# Altium footprint library PCB_Master.PcbLib: 31 footprints (part 1 of 2)
Each footprint in its own frame and in the unit in brackets; x right, y up, seen from the top. Pads: shape width x height; smd on the part's side, far side on the other; paste and mask are expansions set on the pad; w line width, h text height; cw(c..) or ccw(c..) is an arc to the next point about the centre after c.
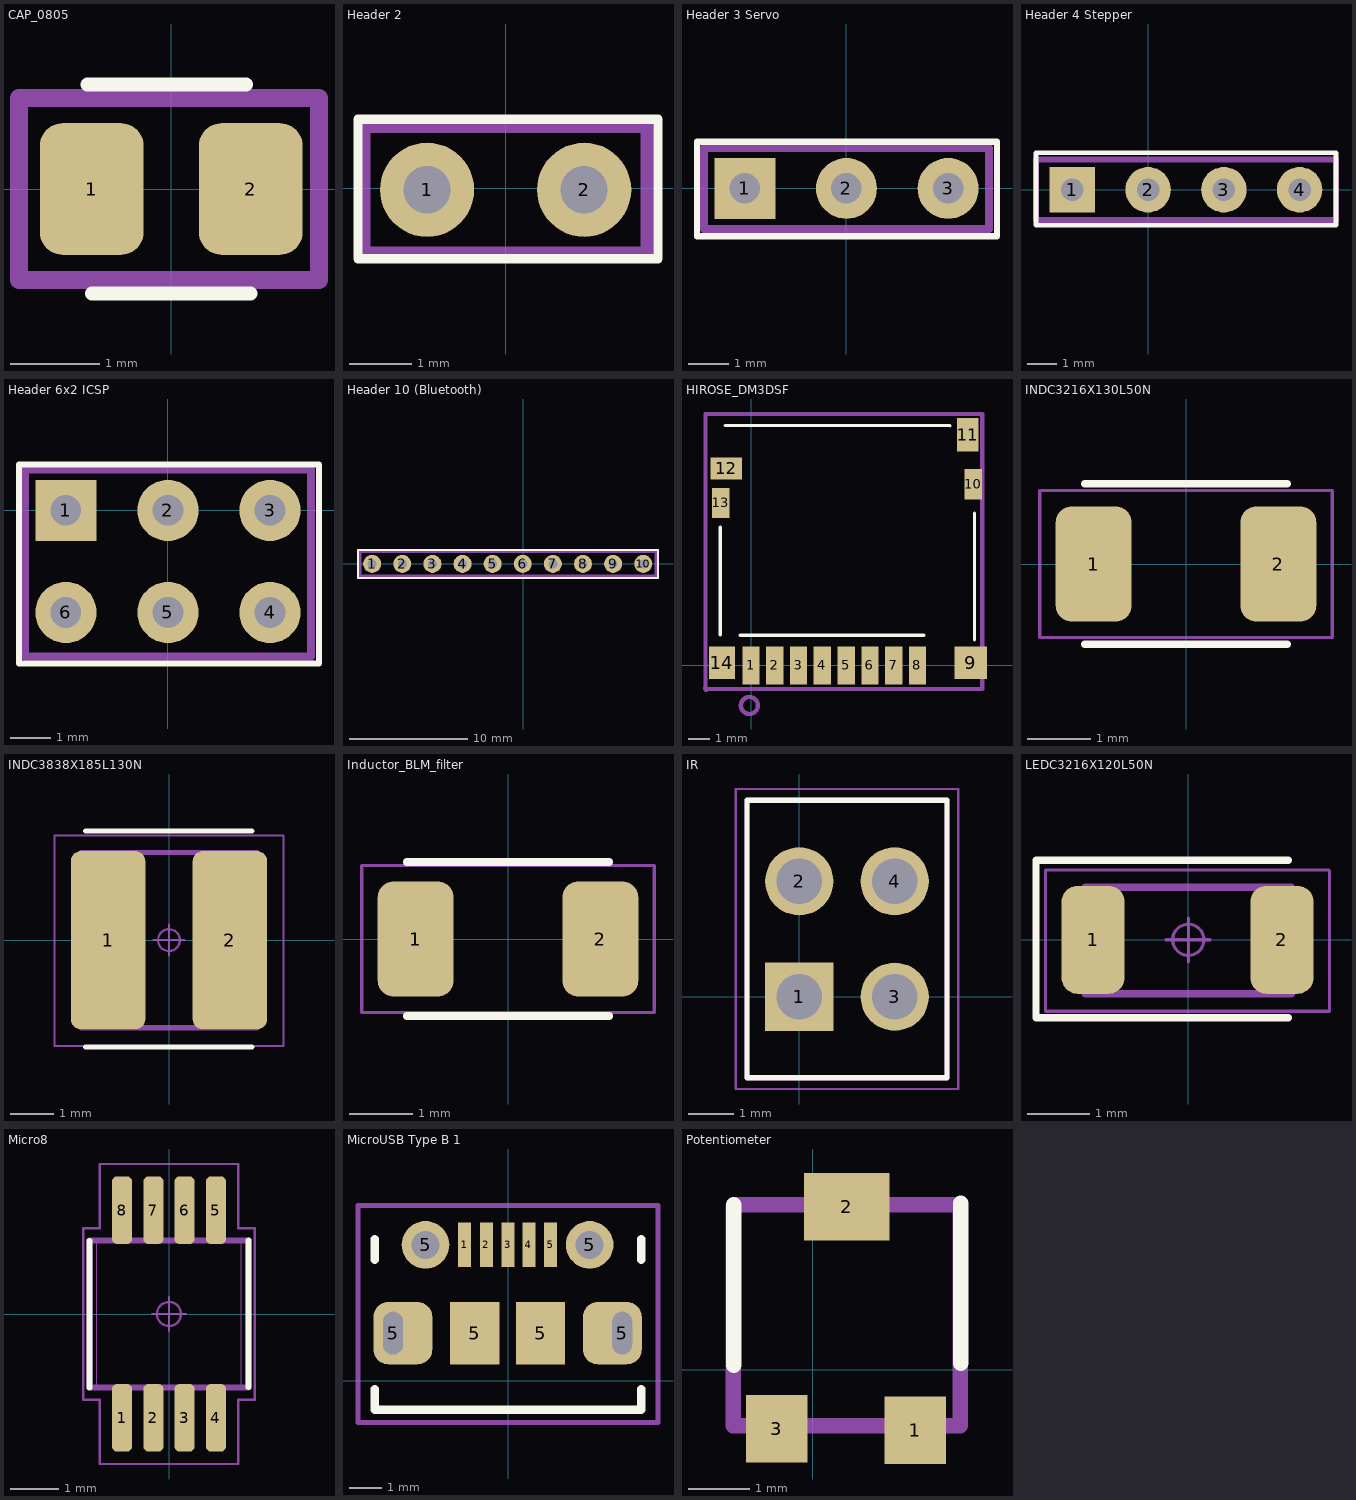
[diagram p0: the footprints below, top view; thin cyan lines are the x and y axes]

## CAP_0805 [mm] "Capacitor, Chip; 2.00 mm L X 1.25 mm W X 1.45 mm H body"
height 1.45
pads (2):
  rrect43% 1.16x1.47 smd: 1(-0.889,0) 2(0.889,0)
Top Overlay:
  lines w0.152: -0.94,1.168 0.838,1.168 ; -0.889,-1.168 0.889,-1.168
Mechanical 15:
  lines w0.203: -1.702,-1.016 1.651,-1.016 1.651,1.016 -1.702,1.016 -1.702,-1.016
3D body "SW3DPS-CAPACITOR 0805-DEFAULT.STEP": height 0.73, standoff -0.03, extent -1,-0.655 1,0.655

## Header 2 [mil]
pads (2):
  round 60 hole 30: 1(-50,-1) 2(50,-1)
Top Overlay:
  lines w6: -94,-45 97,-45 97,44 -94,44 -94,-45
Mechanical 15:
  lines w8: -90,-41 90,-41 90,39 -90,39 -90,-41
3D body "User Library-1x2 TH Pitch 2_54mm.step": height 373.85, standoff -125.98, extent -100,-51 100,49

## Header 3 Servo [mil]
pads (3):
  rect 60x60 hole 30: 1(-100,0)
  round 60 hole 30: 2(0,0) 3(100,0)
Top Overlay:
  lines w6: -147,-47 -147,46 148,46 148,-47 -147,-47
Mechanical 15:
  lines w8: -140,-40 140,-40 140,40 -140,40 -140,-40
3D body "User Library-1x3 TH Pitch 2_54mm.STEP": height 377.78, standoff -122.05, extent -150,-50 150,50

## Header 4 Stepper [mil]
pads (4):
  rect 60x60 hole 30: 1(-100,0)
  round 60 hole 30: 2(0,0) 3(100,0) 4(200,0)
Top Overlay:
  lines w6: -148,-47 -148,49 248,49 248,-47 -148,-47
Mechanical 15:
  lines w8: -148,-40 248,-40 248,40 -148,40 -148,-40
3D body "User Library-header90-4.STEP": height 119.65, standoff -98.46, extent -147,-394.88 253,13

## Header 6x2 ICSP [mil]
pads (6):
  rect 60x60 hole 30: 1(-100,0)
  round 60 hole 30: 2(0,0) 3(100,0) 4(100,-100) 5(0,-100) 6(-100,-100)
Top Overlay:
  lines w6: -146,-150 148,-150 148,45 -146,45 -146,-150
Mechanical 15:
  lines w8: -140,-143 -140,40 140,40 140,-143 -140,-143
3D body "User Library-2x3 Header.step": height 334.65, standoff -118.11, extent -151,-149 149,49.43

## Header 10 (Bluetooth) [mil]
pads (10):
  round 60 hole 30: 1(-502,0) 2(-402,0) 3(-302,0) 4(-202,0) 5(-102,0) 6(-2,0) 7(98,0) 8(198,0) 9(298,0) 10(398,0)
Top Overlay:
  lines w6: -549,-47 447,-47 447,46 -549,46 -549,-47
Mechanical 15:
  lines w8: -542,-40 -542,40 439,40 439,-40 -542,-40
3D body "User Library-Header Female 1x10.step": height 365.65, standoff -101.87, extent -578.8,-49.72 444.82,47.72

## HIROSE_DM3DSF [mm]
pads (14):
  rect 0.8x1.75 smd mask+0.089: 1(0,0) 2(1.1,0) 3(2.2,0) 4(3.3,0) 5(4.4,0) 6(5.5,0) 7(6.6,0) 8(7.7,0)
  rect 1.5x1.5 smd: 9(10.16,0.127)
  rect 0.8x1.4 smd: 10(10.287,8.382) 13(-1.397,7.518)
  rect 1x1.55 smd paste-25.4 mask-25.4: 11(10.033,10.668)
  rect 1.45x1 smd paste-25.4 mask-25.4: 12(-1.15,9.112)
  rect 1.2x1.5 smd mask+0.089: 14(-1.346,0.127)
Top Overlay:
  lines w0.152: -1.422,1.422 -1.422,6.401 ; -1.194,11.1 9.206,11.089 ; -0.508,1.397 8.001,1.397 ; 10.338,1.194 10.338,7.036
Top Paste:
  region: -0.425,8.612 -0.425,9.612 -1.875,9.612 -1.875,8.612
  region: 9.533,9.893 10.533,9.893 10.533,11.443 9.533,11.443
Top Solder:
  region: -0.325,8.512 -0.325,9.712 -1.975,9.712 -1.975,8.512
  region: 9.433,9.793 10.633,9.793 10.633,11.543 9.433,11.543
Mechanical 15:
  circle w0.203: c-0.076,-1.854 r0.394
  lines w0.203: -2.108,-1.067 -2.108,11.633 10.693,11.633 10.693,-0.991 ; -2.083,-1.092 10.693,-1.092
  lines w0.254: -2.108,-1.067 -2.083,-1.092
3D body "DM3D-SF.stp": height 1.55, standoff 0, extent -1.403,-0.381 10.547,11.069

## INDC3216X130L50N [mm] "Inductor, Chip; 3.20 mm L X 1.60 mm W X 1.30 mm H body"
height 1.3
pads (2):
  rrect42% 1.2x1.82 smd: 1(-1.46,0) 2(1.46,0)
Top Overlay:
  lines w0.12: -1.6,-1.27 1.6,-1.27 ; -1.6,1.27 1.6,1.27
Mechanical 15:
  lines w0.05: -2.31,-1.16 2.31,-1.16 2.31,1.16 -2.31,1.16 -2.31,-1.16
3D body "WE-CBF_1206_CBF.stp": height 1.05, standoff -0.05, extent -1.6,-0.8 1.6,0.8

## INDC3838X185L130N [mm] "Inductor, Chip; 3.80 mm L X 3.80 mm W X 1.85 mm H body"
height 1.85
pads (2):
  rrect26% 1.7x4.064 smd: 1(-1.39,0) 2(1.39,0)
Top Overlay:
  lines w0.12: -1.905,-2.438 1.895,-2.438 ; -1.905,2.489 1.895,2.489
Mechanical 11:
  lines w0.12: -2,-2 2,-2 2,2 -2,2 -2,-2
Mechanical 15:
  circle w0.05: c0,0 r0.25
  lines w0.05: -0.35,0 0.35,0 ; 0,-0.35 0,0.35 ; -2.61,-2.413 2.61,-2.413 2.61,2.388 -2.61,2.388 -2.61,-2.413
3D body "Download_STP_WE-TPC-3816.stp": height 1.7, standoff 0.05, extent -1.874,-1.925 1.926,1.875

## Inductor_BLM_filter [mm] "Inductor, Chip; 3.20 mm L X 1.60 mm W X 1.30 mm H body"
height 1.3
pads (2):
  rrect42% 1.2x1.82 smd: 1(-1.46,0) 2(1.46,0)
Top Overlay:
  lines w0.12: -1.6,-1.217 1.6,-1.217 ; -1.6,1.217 1.6,1.217
Mechanical 15:
  lines w0.05: -2.31,-1.16 -2.31,1.16 2.31,1.16 2.31,-1.16 -2.31,-1.16
3D body "User Library-BLM31PG330SN1.step": height 1.11, standoff -0.01, extent -1.575,-0.813 1.625,0.807

## IR [mm] "Header, Vertical Shrouded, 2.10 mm row X 2.54 mm column pitch; 0.76 mm lead width, 4 pins, 2 rows, 2 pins per row, 4.39 mm L X 6.10 mm W X 17.00 mm H body"
height 17
pads (4):
  rect 1.5x1.5 hole 1 paste-1.91: 1(0,0)
  round 1.5 hole 1 paste-1.91: 2(0,2.54) 3(2.1,0) 4(2.1,2.54)
Top Overlay:
  lines w0.12: -1.15,-1.78 -1.15,4.32 3.25,4.32 3.25,-1.78 -1.15,-1.78
Mechanical 11:
  lines w0.12: -1.15,-1.78 -1.15,4.32 3.25,4.32 3.25,-1.78 -1.15,-1.78
Mechanical 12:
  lines w0.01: -1.145,-1.78 -1.145,4.32 3.245,4.32 3.245,-1.78 -1.145,-1.78
Mechanical 15:
  circle w0.05: c0,0 r0.25
  lines w0.05: -0.35,0 0.35,0 ; 0,-0.35 0,0.35 ; -1.4,-2.03 -1.4,4.57 3.5,4.57 3.5,-2.03 -1.4,-2.03
3D body "QRD1114.STEP": height 4.65, standoff -2, extent -1.022,-1.778 3.378,4.322

## LEDC3216X120L50N [mm] "LED, Chip; 3.20 mm L X 1.60 mm W X 1.20 mm H body"
height 1.2
pads (2):
  rrect50% 1.01x1.73 smd: 1(-1.524,0) 2(1.499,0)
Top Overlay:
  lines w0.12: 1.6,-1.245 -2.438,-1.245 -2.438,1.27 1.6,1.27
Mechanical 11:
  lines w0.12: -1.651,0.836 -1.651,-0.864 1.649,-0.864 ; -1.651,0.838 1.649,0.838 ; 1.626,-0.864 1.626,0.836
Mechanical 15:
  circle w0.05: c0,0 r0.25
  lines w0.05: -2.286,1.097 -2.286,-1.143 2.254,-1.143 ; -2.286,1.118 2.254,1.118 ; -0.356,0 0.344,0 ; 0,-0.356 0,0.344 ; 2.261,-1.143 2.261,1.097
3D body "SW3dPS-LED1206G_Green.STEP": height 1.11, standoff -0.4, extent -1.727,-0.762 1.473,0.838

## Micro8 [mm] "also called MO-187, or SOIC/MSOP8 (IRF7526D1)"
height 1.11
pads (8):
  rrect52% 0.42x1.41 smd mask+0.152: 1(-0.975,-2.16) 2(-0.325,-2.16) 3(0.325,-2.16) 4(0.975,-2.16) 5(0.975,2.16) 6(0.325,2.16) 7(-0.325,2.16) 8(-0.975,2.16)
Top Overlay:
  lines w0.12: -1.651,-1.536 -1.651,1.524 ; 1.651,-1.524 1.651,1.536
Mechanical 11:
  lines w0.12: -1.651,-1.53 1.651,-1.53 1.651,1.53 -1.651,1.53 -1.651,-1.53
Mechanical 12:
  lines w0.025: -1.5,-1.5 1.5,-1.5 1.5,1.5 -1.5,1.5 -1.5,-1.5 ; -1.128,-2.452 -1.128,-1.917 -0.823,-1.917 -0.823,-2.452 -1.128,-2.452 ; -1.128,1.917 -1.128,2.452 -0.823,2.452 -0.823,1.917 -1.128,1.917 ; -0.477,-2.452 -0.477,-1.917 -0.172,-1.917 -0.172,-2.452 -0.477,-2.452 ; -0.477,1.917 -0.477,2.452 -0.172,2.452 -0.172,1.917 -0.477,1.917 ; 0.172,-2.452 0.172,-1.917 0.477,-1.917 0.477,-2.452 0.172,-2.452 ; 0.172,1.917 0.172,2.452 0.477,2.452 0.477,1.917 0.172,1.917 ; 0.823,-2.452 0.823,-1.917 1.128,-1.917 1.128,-2.452 0.823,-2.452 ; 0.823,1.917 0.823,2.452 1.128,2.452 1.128,1.917 0.823,1.917
Mechanical 15:
  circle w0.05: c0,0 r0.25
  lines w0.05: -0.35,0 0.35,0 ; 0,-0.35 0,0.35 ; -1.78,-1.78 -1.78,1.78 -1.44,1.78 -1.44,3.12 1.44,3.12 1.44,1.78 1.78,1.78 1.78,-1.78 1.44,-1.78 1.44,-3.12 -1.44,-3.12 -1.44,-1.78 -1.78,-1.78
3D body "MSOP8.STEP": height 0.97, standoff -0.01, extent -1.5,-2.43 1.5,2.428

## MicroUSB Type B 1 [mm] "MOLEX 105017"
pads (11):
  rect 0.4x1.35 smd mask+0.152: 1(-1.321,4.14) 2(-0.66,4.14) 3(0,4.14) 4(0.635,4.14) 5(1.295,4.14)
  rrect50% 1.8x1.9 hole 0.6 slot 1.3 at 90 deg copper offset 0.3,0: 5(-3.505,1.448)
  round 1.45 hole 0.85 mask+0.152: 5(-2.515,4.14)
  rect 1.5x1.9 smd: 5(-1.016,1.448) 5(0.991,1.448)
  round 1.45 hole 0.85 mask+0.178: 5(2.489,4.14)
  rrect50% 1.8x1.9 hole 0.6 slot 1.3 at 90 deg copper offset -0.3,0: 5(3.48,1.448)
Top Overlay:
  lines w0.254: -4.064,-0.254 -4.064,-0.889 4.064,-0.889 4.064,-0.254 ; -4.064,3.683 -4.064,4.318 ; 4.064,3.683 4.064,4.318
Mechanical 15:
  lines w0.152: -4.572,-1.27 4.572,-1.27 4.572,5.334 -3.81,5.334 -4.572,5.334 -4.572,-1.27
3D body "MOLEX_105017-0001.STEP": height 2.68, standoff -0.63, extent -4.115,-1.118 4.085,4.312

## PCBComponent_1 [mil]

## Potentiometer [mm]
pads (3):
  rect 1x1.1 smd: 1(1.676,-0.991) 3(-0.584,-0.965)
  rect 1.4x1.1 smd: 2(0.559,2.66)
Top Overlay:
  lines w0.254: -1.289,0.076 -1.289,2.692 ; 2.42,0.102 2.42,2.718
Mechanical 15:
  lines w0.254: -1.295,2.667 -1.295,-0.914 2.413,-0.914 2.413,2.692 -1.289,2.692
3D body "SW3dPS-TRIMMER_PVG3A.STEP": height 2, standoff 0, extent -1.141,-0.94 2.259,2.66